# Altium footprint library HyTechDevices.PCBLIB: 204 footprints (part 8 of 13)
Each footprint in its own frame and in the unit in brackets; x right, y up, seen from the top. Pads: shape width x height; smd on the part's side, far side on the other; paste and mask are expansions set on the pad; w line width, h text height; cw(c..) or ccw(c..) is an arc to the next point about the centre after c.
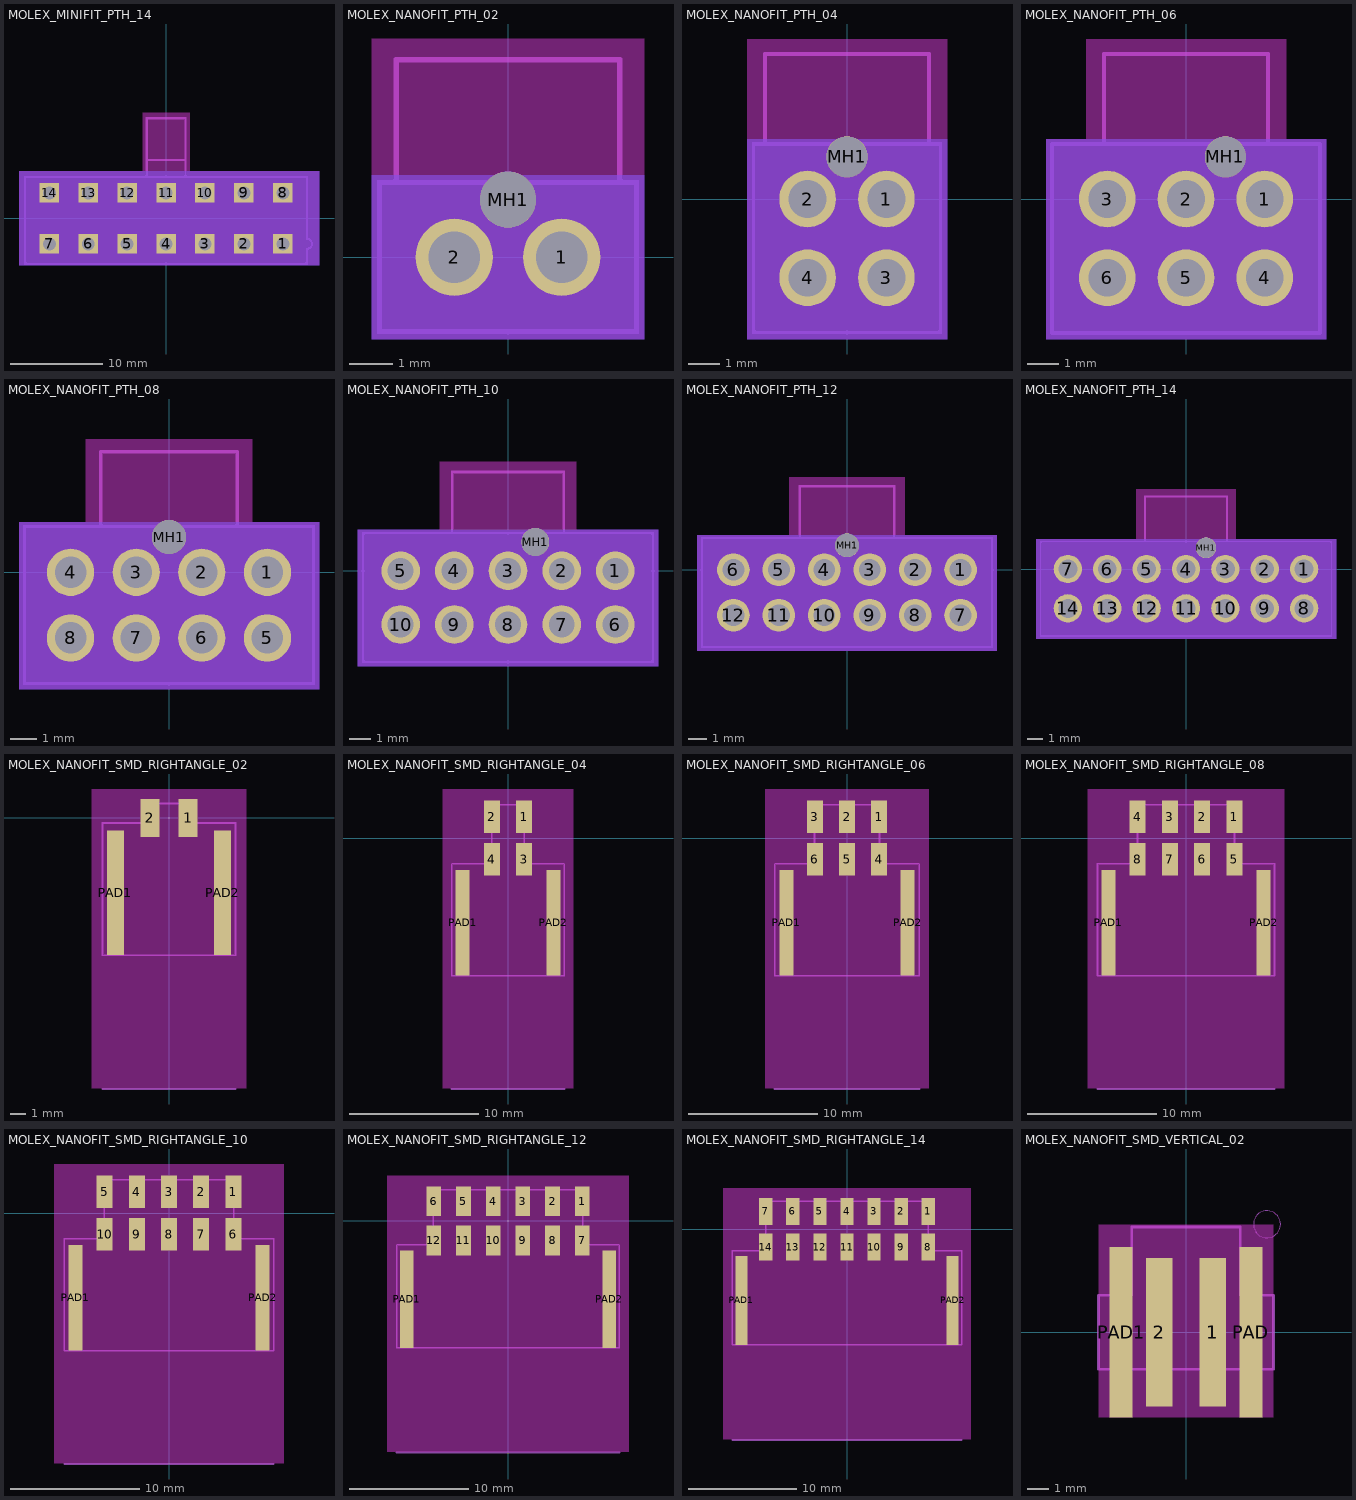
[diagram p7: the footprints below, top view; thin cyan lines are the x and y axes]

## MOLEX_MINIFIT_PTH_14 [mil]
pads (14):
  rect 82.68x82.68 / inner round 76.39 / far side rect 82.68x82.68 hole 55.12: 1(496.06,-108.27) 2(330.71,-108.27) 3(165.35,-108.27) 4(0,-108.27) 5(-165.35,-108.27) 6(-330.71,-108.27) 7(-496.06,-108.27) 8(496.06,108.27) 9(330.71,108.27) 10(165.35,108.27) 11(0,108.27) 12(-165.35,108.27) 13(-330.71,108.27) 14(-496.06,108.27)
Top keep-out:
  region: -100,200 -100,450 100,450 100,200
  region: -625,-200 -625,200 650,200 650,-200
Bottom keep-out:
  region: -625,-200 -625,200 650,200 650,-200
tPlace:
  lines w10: -82.68,181.1 -82.68,248.03 ; 82.68,181.1 82.68,248.03 ; -82.68,248.03 82.68,248.03 ; -82.68,248.03 -82.68,425.17 82.68,425.17 82.68,248.03 ; -598.43,-192.91 598.43,-192.91 598.43,-129.92 ccw(c598.43,-108.27) 598.43,-86.61 598.43,177.17 -598.43,177.17 -598.43,-192.91

## MOLEX_NANOFIT_PTH_02 [mil]
pads (3):
  round 70.86 hole 47.24: 1(49.21,0) 2(-49.21,0)
  round 51.18 hole 51.18 unplated: MH1(0,52.76)
Top keep-out:
  region: 125,200 125,75 -125,75 -125,200
  region: 125,75 125,-75 -125,-75 -125,75
Bottom keep-out:
  region: 125,75 125,-75 -125,-75 -125,75
tPlace:
  lines w5: -102.36,68.5 -118.11,68.5 -118.11,-68.5 118.11,-68.5 118.11,68.5 102.36,68.5 ; -102.36,68.5 -102.36,181.1 102.36,181.1 102.36,68.5 ; -102.36,68.5 102.36,68.5

## MOLEX_NANOFIT_PTH_04 [mil]
pads (5):
  round 70.86 hole 47.24: 1(49.21,0) 2(-49.21,0) 3(49.21,-98.43) 4(-49.21,-98.43)
  round 51.18 hole 51.18 unplated: MH1(0,52.76)
Top keep-out:
  region: 125,200 125,75 -125,75 -125,200
  region: 125,75 125,-175 -125,-175 -125,75
Bottom keep-out:
  region: 125,75 125,-175 -125,-175 -125,75
tPlace:
  lines w5: -102.36,68.5 102.36,68.5 ; -102.36,68.5 -116.93,68.5 -116.93,-166.93 116.93,-166.93 116.93,68.5 102.36,68.5 ; -102.36,68.5 -102.36,181.1 102.36,181.1 102.36,68.5

## MOLEX_NANOFIT_PTH_06 [mil]
pads (7):
  round 70.86 hole 47.24: 1(98.43,0) 2(0,0) 3(-98.43,0) 4(98.43,-98.43) 5(0,-98.43) 6(-98.43,-98.43)
  round 51.18 hole 51.18 unplated: MH1(49.21,52.76)
Top keep-out:
  region: 125,200 125,75 -125,75 -125,200
  region: 175,75 175,-175 -175,-175 -175,75
Bottom keep-out:
  region: 175,75 175,-175 -175,-175 -175,75
tPlace:
  lines w5: -102.36,68.9 102.36,68.9 ; -102.36,68.9 -167.32,68.9 -167.32,-167.32 167.32,-167.32 167.32,68.9 102.36,68.9 ; -102.36,68.9 -102.36,181.1 102.36,181.1 102.36,68.9

## MOLEX_NANOFIT_PTH_08 [mil]
pads (9):
  round 70.86 hole 47.24: 1(147.64,0) 2(49.21,0) 3(-49.21,0) 4(-147.64,0) 5(147.64,-98.43) 6(49.21,-98.43) 7(-49.21,-98.43) 8(-147.64,-98.43)
  round 51.18 hole 51.18 unplated: MH1(0,52.76)
Top keep-out:
  region: 125,200 125,75 -125,75 -125,200
  region: 225,75 225,-175 -225,-175 -225,75
Bottom keep-out:
  region: 225,75 225,-175 -225,-175 -225,75
tPlace:
  lines w5: -102.36,68.9 102.36,68.9 ; -102.36,68.9 -216.54,68.9 -216.54,-167.32 216.54,-167.32 216.54,68.9 102.36,68.9 ; -102.36,68.9 -102.36,181.1 102.36,181.1 102.36,68.9

## MOLEX_NANOFIT_PTH_10 [mm]
pads (11):
  round 1.8 hole 1.2: 1(5,0) 2(2.5,0) 3(0,0) 4(-2.5,0) 5(-5,0) 6(5,-2.5) 7(2.5,-2.5) 8(0,-2.5) 9(-2.5,-2.5) 10(-5,-2.5)
  round 1.3 hole 1.3 unplated: MH1(1.27,1.34)
Top keep-out:
  region: 3.175,5.08 3.175,1.905 -3.175,1.905 -3.175,5.08
  region: 6.985,1.905 6.985,-4.445 -6.985,-4.445 -6.985,1.905
Bottom keep-out:
  region: 6.985,1.905 6.985,-4.445 -6.985,-4.445 -6.985,1.905
tPlace:
  lines w0.127: -2.6,1.75 2.6,1.75 ; -2.6,1.75 -6.75,1.75 -6.75,-4.25 6.75,-4.25 6.75,1.75 2.6,1.75 ; -2.6,1.75 -2.6,4.6 2.6,4.6 2.6,1.75

## MOLEX_NANOFIT_PTH_12 [mil]
pads (13):
  round 70.86 hole 47.24: 1(246.06,0) 2(147.64,0) 3(49.21,0) 4(-49.21,0) 5(-147.64,0) 6(-246.06,0) 7(246.06,-98.43) 8(147.64,-98.43) 9(49.21,-98.43) 10(-49.21,-98.43) 11(-147.64,-98.43) 12(-246.06,-98.43)
  round 51.18 hole 51.18 unplated: MH1(0,52.76)
Top keep-out:
  region: 125,200 125,75 -125,75 -125,200
  region: 325,75 325,-175 -325,-175 -325,75
Bottom keep-out:
  region: 325,75 325,-175 -325,-175 -325,75
tPlace:
  lines w5: -102.36,68.9 102.36,68.9 ; -102.36,68.9 -314.96,68.9 -314.96,-167.32 314.96,-167.32 314.96,68.9 102.36,68.9 ; -102.36,68.9 -102.36,181.1 102.36,181.1 102.36,68.9

## MOLEX_NANOFIT_PTH_14 [mm]
pads (15):
  round 1.8 hole 1.2: 1(7.5,0) 2(5,0) 3(2.5,0) 4(0,0) 5(-2.5,0) 6(-5,0) 7(-7.5,0) 8(7.5,-2.5) 9(5,-2.5) 10(2.5,-2.5) 11(0,-2.5) 12(-2.5,-2.5) 13(-5,-2.5) 14(-7.5,-2.5)
  round 1.3 hole 1.3 unplated: MH1(1.27,1.34)
Top keep-out:
  region: 3.175,5.08 3.175,1.905 -3.175,1.905 -3.175,5.08
  region: 9.525,1.905 9.525,-4.445 -9.525,-4.445 -9.525,1.905
Bottom keep-out:
  region: 9.525,1.905 9.525,-4.445 -9.525,-4.445 -9.525,1.905
tPlace:
  lines w0.127: -2.6,1.75 2.6,1.75 ; -2.6,1.75 -9.25,1.75 -9.25,-4.25 9.25,-4.25 9.25,1.75 2.6,1.75 ; -2.6,1.75 -2.6,4.6 2.6,4.6 2.6,1.75

## MOLEX_NANOFIT_SMD_RIGHTANGLE_02 [mil]
pads (4):
  rect 48.82x98.43 smd: 1(49.21,0) 2(-49.21,0)
  rect 43.31x322.83 smd: PAD1(-138.58,-194.09) PAD2(138.58,-194.09)
Top keep-out:
  region: -200,-700 -200,75 200,75 200,-700
tDocu:
  lines w6: -172.05,-701.97 172.05,-701.97
  text "Line must not be" at 0,-725 h20.4
  text "visible on the PCB." at 0,-761 h20.4
tPlace:
  lines w5: -172.05,-355.51 172.05,-355.51 172.05,-13.39 50,-13.39 50,37.4 -50,37.4 -50,-13.39 -172.05,-13.39 -172.05,-355.51

## MOLEX_NANOFIT_SMD_RIGHTANGLE_04 [mm]
pads (6):
  rect 1.24x2.5 smd: 1(1.25,1.65) 2(-1.25,1.65) 3(1.25,-1.65) 4(-1.25,-1.65)
  rect 1.1x8.2 smd: PAD1(-3.52,-6.58) PAD2(3.52,-6.58)
Top keep-out:
  region: -5.08,-19.43 -5.08,3.81 5.08,3.81 5.08,-19.43
tDocu:
  lines w0.152: -4.37,-19.48 4.37,-19.48
  text "Line must not be" at 0,-20.065 h0.52
  text "visible on the PCB." at 0,-20.979 h0.52
tPlace:
  lines w0.127: -4.37,-10.68 4.37,-10.68 4.37,-1.99 1.27,-1.99 1.27,2.6 -1.27,2.6 -1.27,-1.99 -4.37,-1.99 -4.37,-10.68

## MOLEX_NANOFIT_SMD_RIGHTANGLE_06 [mm]
pads (8):
  rect 1.24x2.5 smd: 1(2.5,1.65) 2(0,1.65) 3(-2.5,1.65) 4(2.5,-1.65) 5(0,-1.65) 6(-2.5,-1.65)
  rect 1.1x8.2 smd: PAD1(-4.7,-6.58) PAD2(4.7,-6.58)
Top keep-out:
  region: -6.35,-19.43 -6.35,3.81 6.35,3.81 6.35,-19.43
tDocu:
  lines w0.152: -5.62,-19.48 5.62,-19.48
  text "Line must not be" at 0,-20.065 h0.52
  text "visible on the PCB." at 0,-20.979 h0.52
tPlace:
  lines w0.127: -5.62,-10.68 5.62,-10.68 5.62,-1.99 2.52,-1.99 2.52,2.6 -2.52,2.6 -2.52,-1.99 -5.62,-1.99 -5.62,-10.68

## MOLEX_NANOFIT_SMD_RIGHTANGLE_08 [mm]
pads (10):
  rect 1.24x2.5 smd: 1(3.75,1.65) 2(1.25,1.65) 3(-1.25,1.65) 4(-3.75,1.65) 5(3.75,-1.65) 6(1.25,-1.65) 7(-1.25,-1.65) 8(-3.75,-1.65)
  rect 1.1x8.2 smd: PAD1(-6.02,-6.58) PAD2(6.02,-6.58)
Top keep-out:
  region: -7.62,-19.43 -7.62,3.81 7.62,3.81 7.62,-19.43
tDocu:
  lines w0.152: -6.87,-19.48 6.87,-19.48
  text "Line must not be" at 0,-20.065 h0.52
  text "visible on the PCB." at 0,-20.979 h0.52
tPlace:
  lines w0.127: -6.87,-10.68 6.87,-10.68 6.87,-1.99 3.77,-1.99 3.77,2.6 -3.77,2.6 -3.77,-1.99 -6.87,-1.99 -6.87,-10.68

## MOLEX_NANOFIT_SMD_RIGHTANGLE_10 [mm]
pads (12):
  rect 1.24x2.5 smd: 1(5,1.65) 2(2.5,1.65) 3(0,1.65) 4(-2.5,1.65) 5(-5,1.65) 6(5,-1.65) 7(2.5,-1.65) 8(0,-1.65) 9(-2.5,-1.65) 10(-5,-1.65)
  rect 1.1x8.2 smd: PAD1(-7.27,-6.58) PAD2(7.27,-6.58)
Top keep-out:
  region: -8.89,-19.43 -8.89,3.81 8.89,3.81 8.89,-19.43
tDocu:
  lines w0.152: -8.12,-19.48 8.12,-19.48
  text "Line must not be" at 0,-20.065 h0.52
  text "visible on the PCB." at 0,-20.979 h0.52
tPlace:
  lines w0.127: -8.12,-10.68 8.12,-10.68 8.12,-1.99 5.02,-1.99 5.02,2.6 -5.02,2.6 -5.02,-1.99 -8.12,-1.99 -8.12,-10.68

## MOLEX_NANOFIT_SMD_RIGHTANGLE_12 [mm]
pads (14):
  rect 1.24x2.5 smd: 1(6.25,1.65) 2(3.75,1.65) 3(1.25,1.64) 4(-1.25,1.64) 5(-3.75,1.64) 6(-6.25,1.64) 7(6.25,-1.65) 8(3.75,-1.65) 9(1.25,-1.65) 10(-1.25,-1.65) 11(-3.75,-1.65) 12(-6.25,-1.65)
  rect 1.1x8.2 smd: PAD1(-8.52,-6.58) PAD2(8.52,-6.58)
Top keep-out:
  region: -10.16,-19.43 -10.16,3.81 10.16,3.81 10.16,-19.43
tDocu:
  lines w0.152: -9.37,-19.48 9.37,-19.48
  text "Line must not be" at 0,-20.065 h0.52
  text "visible on the PCB." at 0,-20.979 h0.52
tPlace:
  lines w0.127: -9.37,-10.68 9.37,-10.68 9.37,-1.99 6.27,-1.99 6.27,2.6 -6.27,2.6 -6.27,-1.99 -9.37,-1.99 -9.37,-10.68

## MOLEX_NANOFIT_SMD_RIGHTANGLE_14 [mm]
pads (16):
  rect 1.24x2.5 smd: 1(7.5,1.65) 2(5,1.65) 3(2.5,1.65) 4(0,1.65) 5(-2.5,1.65) 6(-5,1.65) 7(-7.5,1.65) 8(7.5,-1.65) 9(5,-1.65) 10(2.5,-1.65) 11(0,-1.65) 12(-2.5,-1.65) 13(-5,-1.65) 14(-7.5,-1.65)
  rect 1.1x8.2 smd: PAD1(-9.77,-6.58) PAD2(9.77,-6.58)
Top keep-out:
  region: -11.43,-19.43 -11.43,3.81 11.43,3.81 11.43,-19.43
tDocu:
  lines w0.152: -10.62,-19.48 10.62,-19.48
  text "Line must not be" at 0,-20.065 h0.52
  text "visible on the PCB." at 0,-20.979 h0.52
tPlace:
  lines w0.127: -10.62,-10.68 10.62,-10.68 10.62,-1.99 7.52,-1.99 7.52,2.6 -7.52,2.6 -7.52,-1.99 -10.62,-1.99 -10.62,-10.68

## MOLEX_NANOFIT_SMD_VERTICAL_02 [mm]
pads (4):
  rect 1.24x7 smd: 1(1.25,0) 2(-1.25,0)
  rect 1.1x8 smd: PAD(3.055,0) PAD1(-3.055,0)
Top keep-out:
  region: -4.115,-4 -4.115,5.05 4.115,5.05 4.115,-4
tPlace:
  circle w0: c3.81,5.08 r0.635
  lines w0.127: -4.115,-1.74 4.115,-1.74 4.115,1.74 2.55,1.74 2.55,4.95 -2.55,4.95 -2.55,1.74 -4.115,1.74 -4.115,-1.74